# Altium footprint library AD.PcbLib: 11 footprints
Each footprint in its own frame and in the unit in brackets; x right, y up, seen from the top. Pads: shape width x height; smd on the part's side, far side on the other; paste and mask are expansions set on the pad; w line width, h text height; cw(c..) or ccw(c..) is an arc to the next point about the centre after c.
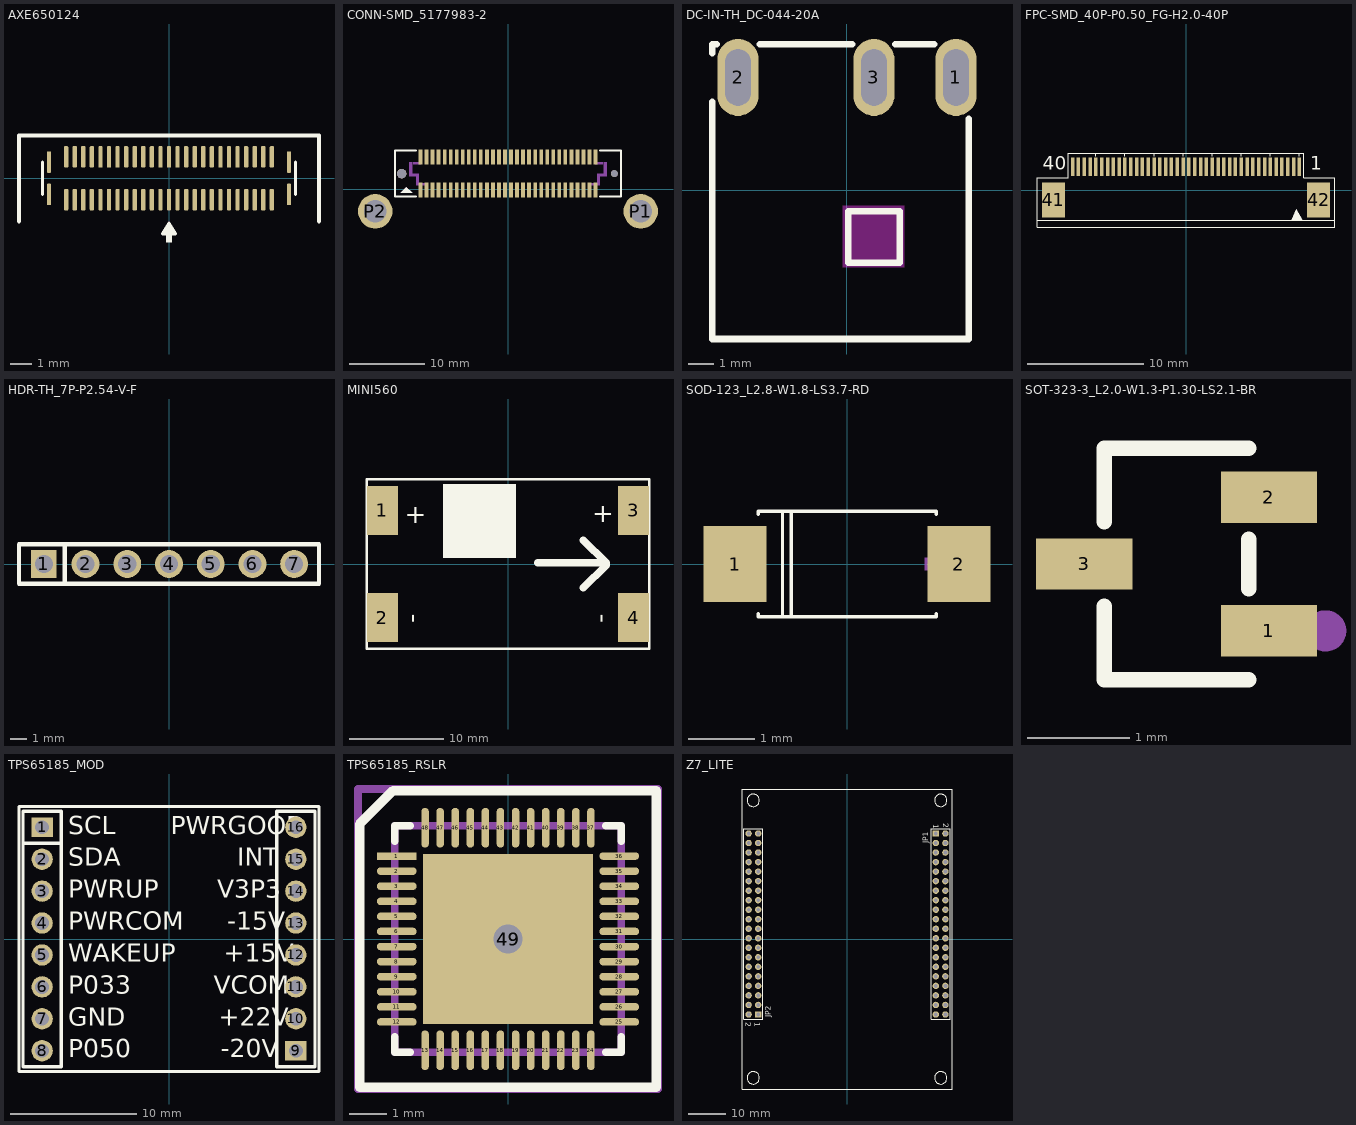
[diagram p0: the footprints below, top view; thin cyan lines are the x and y axes]

## AXE650124 [mm]
pads (54):
  rrect50% 0.2x1 smd: 0(-5.6,-0.75) 0(-5.6,0.75) 0(5.6,-0.75) 0(5.6,0.75) 1(4.8,1) 2(4.8,-1) 3(4.4,1) 4(4.4,-1) 5(4,1) 6(4,-1) 7(3.6,1) 8(3.6,-1) 9(3.2,1) 10(3.2,-1) 11(2.8,1) 12(2.8,-1) 13(2.4,1) 14(2.4,-1) 15(2,1) 16(2,-1) 17(1.6,1) 18(1.6,-1) 19(1.2,1) 20(1.2,-1) 21(0.8,1) 22(0.8,-1) 23(0.4,1) 24(0.4,-1) 25(0,1) 26(0,-1) 27(-0.4,1) 28(-0.4,-1) 29(-0.8,1) 30(-0.8,-1) 31(-1.2,1) 32(-1.2,-1) 33(-1.6,1) 34(-1.6,-1) 35(-2,1) 36(-2,-1) 37(-2.4,1) 38(-2.4,-1) 39(-2.8,1) 40(-2.8,-1) 41(-3.2,1) 42(-3.2,-1) 43(-3.6,1) 44(-3.6,-1) 45(-4,1) 46(-4,-1) 47(-4.4,1) 48(-4.4,-1) 49(-4.8,1) 50(-4.8,-1)
Top Overlay:
  rectangle: -0.15,-3 0.15,-2.6
  region: 0,-2.1 -0.3,-2.6 0.3,-2.6
  lines w0.152: -5.9,-0.75 -5.9,0.75 ; 5.9,-0.75 5.9,0.75 ; -0.3,-2.6 0,-2.6 0.3,-2.6 0,-2.1 -0.3,-2.6
  lines w0.203: -7,-2 -7,2 7,2 7,-2

## CONN-SMD_5177983-2 [mm]
pads (64):
  rect 0.5x2 smd: 1(-11.599,-0.157) 2(-11.599,4.243) 3(-10.799,-0.157) 4(-10.799,4.243) 5(-10,-0.157) 6(-10,4.243) 7(-9.199,-0.157) 8(-9.199,4.243) 9(-8.4,-0.157) 10(-8.4,4.243) 11(-7.6,-0.157) 12(-7.6,4.243) 13(-6.799,-0.157) 14(-6.799,4.243) 15(-6,-0.157) 16(-6,4.243) 17(-5.199,-0.157) 18(-5.199,4.243) 19(-4.4,-0.157) 20(-4.4,4.243) 21(-3.6,-0.157) 22(-3.6,4.243) 23(-2.799,-0.157) 24(-2.799,4.243) 25(-2,-0.157) 26(-2,4.243) 27(-1.199,-0.157) 28(-1.199,4.243) 29(-0.4,-0.157) 30(-0.4,4.243) 31(0.4,-0.157) 32(0.4,4.243) 33(1.201,-0.157) 34(1.201,4.243) 35(2,-0.157) 36(2,4.243) 37(2.801,-0.157) 38(2.801,4.243) 39(3.6,-0.157) 40(3.6,4.243) 41(4.4,-0.157) 42(4.4,4.243) 43(5.201,-0.157) 44(5.201,4.243) 45(6,-0.157) 46(6,4.243) 47(6.801,-0.157) 48(6.801,4.243) 49(7.6,-0.157) 50(7.6,4.243) 51(8.4,-0.157) 52(8.4,4.243) 53(9.201,-0.157) 54(9.201,4.243) 55(10,-0.157) 56(10,4.243) 57(10.801,-0.157) 58(10.801,4.243) 59(11.6,-0.157) 60(11.6,4.243)
  round 4.57 hole 3: P1(17.6,-2.958) P2(-17.6,-2.958)
  round 1.25 hole 1.25 unplated: ""(-14.099,2.043)
  round 0.9 hole 0.9 unplated: ""(14.1,2.043)
Top Overlay:
  region: -13.462,0.265 -14.224,-0.497 -12.7,-0.497
  lines w0.254: -12.192,-1.005 -14.986,-1.005 -14.986,2.043 -14.986,5.091 -12.192,5.091 ; 12.192,-1.005 14.987,-1.005 14.987,5.091 12.192,5.091
Mechanical 15:
  circle w0.55: c-14.099,2.043 r0.275
  circle w0.35: c14.1,2.043 r0.175
  region: -13.462,0.265 -14.224,-0.497 -12.7,-0.497
  region: -11.811,0.519 -11.811,2.043 -12.7,2.043 -12.7,3.567 -13.081,3.567 -13.081,1.662 -12.192,1.662 -12.192,0.519
  region: -12.573,3.313 -11.557,3.313 -11.557,3.567 -12.573,3.567
  region: -11.684,0.519 -10.668,0.519 -10.668,0.773 -11.684,0.773
  region: 11.811,0.519 11.811,2.043 12.7,2.043 12.7,3.567 13.081,3.567 13.081,1.662 12.192,1.662 12.192,0.519
  region: 11.684,0.519 10.668,0.519 10.668,0.773 11.684,0.773
  region: 12.573,3.313 11.557,3.313 11.557,3.567 12.573,3.567

## DC-IN-TH_DC-044-20A [mm]
pads (3):
  oval 1.6x3 hole 1 slot 2.2 at 90 deg: 1(4.263,4.391) 2(-4.236,4.391) 3(1.064,4.391)
Top Overlay:
  lines w0.254: -5.236,3.448 -5.236,-5.808 4.764,-5.808 4.764,2.79 ; -5.236,5.335 -5.236,5.691 -5.074,5.691 ; -1.875,5.691 -3.398,5.691 0.226,5.691 ; 1.902,5.691 3.425,5.691 ; 0.064,-2.828 0.064,-0.828 2.064,-0.828 2.064,-2.828 0.064,-2.828
Keep-Out Layer:
  board cut-out: 2.244,-3.009 -0.156,-3.009 -0.156,-0.609 2.244,-0.609

## FPC-SMD_40P-P0.50_FG-H2.0-40P [mm]
pads (42):
  rect 0.3x1.6 smd: 1(9.752,2.026) 2(9.252,2.026) 3(8.752,2.026) 4(8.252,2.026) 5(7.752,2.026) 6(7.252,2.026) 7(6.752,2.026) 8(6.252,2.026) 9(5.751,2.026) 10(5.252,2.026) 11(4.752,2.026) 12(4.252,2.026) 13(3.752,2.026) 14(3.252,2.026) 15(2.752,2.026) 16(2.252,2.026) 17(1.752,2.026) 18(1.252,2.026) 19(0.752,2.026) 20(0.252,2.026) 21(-0.248,2.026) 22(-0.748,2.026) 23(-1.248,2.026) 24(-1.748,2.026) 25(-2.248,2.026) 26(-2.748,2.026) 27(-3.248,2.026) 28(-3.748,2.026) 29(-4.248,2.026) 30(-4.748,2.026) 31(-5.248,2.026) 32(-5.748,2.026) 33(-6.248,2.026) 34(-6.748,2.026) 35(-7.248,2.026) 36(-7.748,2.026) 37(-8.248,2.026) 38(-8.748,2.026) 39(-9.248,2.026) 40(-9.748,2.026)
  rect 2x3 smd: 41(-11.398,-0.83) 42(11.398,-0.83)
Top Overlay:
  region: 9.081,-2.549 9.981,-2.549 9.501,-1.65
  lines w0.1: -12.8,-2.589 12.8,-2.589 ; -7.751,2.906 -7.751,3.146 ; -5.251,2.906 -5.251,3.146 ; -2.751,2.906 -2.751,3.146 ; -0.251,2.906 -0.251,3.146 ; 2.249,2.906 2.249,3.146 ; 4.749,2.906 4.749,3.146 ; 7.249,2.906 7.249,3.146 ; 9.749,2.906 9.749,3.146 ; 12.798,-3.182 12.798,1.078 10.133,1.078 10.133,3.176 -10.131,3.176 -10.131,1.078 -12.8,1.078 -12.8,-3.182 12.8,-3.182
  text "40" at -12.319,1.378 h2
  text "1" at 10.668,1.397 h2

## HDR-TH_7P-P2.54-V-F [mm]
pads (7):
  rect 1.575x1.7 hole 1.1: 1(-7.62,0)
  round 1.7 hole 1.1: 2(-5.08,0) 3(-2.54,0) 4(0,0) 5(2.54,0) 6(5.08,0) 7(7.62,0)
Top Overlay:
  lines w0.254: -6.35,-1.143 -6.35,1.143 ; -9.13,-1.2 -9.13,1.2 9.13,1.2 9.13,-1.2 -9.13,-1.2

## MINI560 [mm]
pads (4):
  rect 3.25x5.2 smd: 1(-13.335,5.7) 2(-13.335,-5.7) 3(13.335,5.7) 4(13.335,-5.7)
Top Overlay:
  rectangle: -6.921,0.635 0.826,8.509
  lines w0.3: -15,-9 15,-9 15,9 -15,9 -15,-9
  lines w0.8: 3.175,0.127 9.144,0.127 10.414,0.127 ; 8.001,-2.54 10.414,-0.127 10.414,0.127 ; 8.001,2.54 10.414,0.127
  text "+" at -10.973,4.31 h2.03
  text "+" at 8.966,4.437 h2.03
  text "-" at -9.347,-6.274 h2.03
  text "-" at 10.718,-6.274 h2.03

## SOD-123_L2.8-W1.8-LS3.7-RD [mm]
pads (2):
  rect 0.95x1.15 smd: 1(-1.693,0) 2(1.693,0)
Top Overlay:
  lines w0.051: -1.34,-0.754 -1.34,-0.8 1.35,-0.8 1.35,-0.754 ; -1.34,0.754 -1.34,0.8 1.35,0.8 1.35,0.754 ; -0.974,-0.8 -0.974,0.8 ; -0.845,-0.8 -0.845,0.8
Mechanical 15:
  region: -2.03,0.095 -2.03,-0.095 -1.272,-0.095 -1.272,0.095
  region: 1.935,0.098 1.935,-0.092 1.177,-0.092 1.177,0.098

## SOT-323-3_L2.0-W1.3-P1.30-LS2.1-BR [mm]
pads (3):
  rect 0.936x0.5 smd: 1(457.848,-343.512) 2(457.848,-342.212) 3(456.052,-342.862)
Top Overlay:
  lines w0.152: 456.249,-343.273 456.249,-343.989 457.651,-343.989 ; 456.249,-342.452 456.249,-341.736 457.651,-341.736 ; 457.651,-343.102 457.651,-342.623
Mechanical 15:
  circle w0.2: c458.4,-343.512 r0.1

## TPS65185_MOD [mm]
pads (16):
  rect 1.7x1.524 hole 1.1: 1(-10.096,8.89) 9(10.096,-8.89)
  round 1.7 hole 1.1: 2(-10.096,6.35) 3(-10.096,3.81) 4(-10.096,1.27) 5(-10.096,-1.27) 6(-10.096,-3.81) 7(-10.096,-6.35) 8(-10.096,-8.89) 10(10.096,-6.35) 11(10.096,-3.81) 12(10.096,-1.27) 13(10.096,1.27) 14(10.096,3.81) 15(10.096,6.35) 16(10.096,8.89)
Top Overlay:
  lines w0.254: -11.62,7.62 -8.572,7.62 ; -11.938,-10.541 -11.938,10.541 11.938,10.541 11.938,-10.541 -11.938,-10.541 ; -11.62,-10.16 -8.572,-10.16 -8.572,10.16 -11.62,10.16 -11.62,-10.16 ; 8.572,-10.16 8.572,10.16 11.62,10.16 11.62,-10.16 8.572,-10.16
  text "PWRGOOD" at 0.127,7.874 h2.5
  text "INT" at 5.428,5.334 h2.5
  text "V3P3" at 3.858,2.794 h2.5
  text "-15V" at 4.656,0.254 h2.5
  text "+15V" at 4.371,-2.286 h2.5
  text "VCOM" at 3.581,-4.826 h2.5
  text "+22V" at 3.957,-7.366 h2.5
  text "-20V" at 4.133,-9.906 h2.5
  text "P050" at -8.001,-9.906 h2.5
  text "GND" at -8.001,-7.366 h2.5
  text "P033" at -8.001,-4.826 h2.5
  text "WAKEUP" at -8.001,-2.286 h2.5
  text "PWRCOM" at -8.001,0.254 h2.5
  text "PWRUP" at -8.001,2.794 h2.5
  text "SDA" at -8.001,5.334 h2.5
  text "SCL" at -8.001,7.874 h2.5

## TPS65185_RSLR [mm]
height 1
pads (50):
  rect 1.057x0.199 smd paste+0 mask+0: 1(-2.951,2.2)
  rrect100% 1.057x0.199 smd paste+0 mask+0: 2(-2.951,1.8) 3(-2.951,1.4) 4(-2.951,1) 5(-2.951,0.6) 6(-2.951,0.2) 7(-2.951,-0.2) 8(-2.951,-0.6) 9(-2.951,-1) 10(-2.951,-1.4) 11(-2.951,-1.8) 12(-2.951,-2.2) 25(2.951,-2.2) 26(2.951,-1.8) 27(2.951,-1.4) 28(2.951,-1) 29(2.951,-0.6) 30(2.951,-0.2) 31(2.951,0.2) 32(2.951,0.6) 33(2.951,1) 34(2.951,1.4) 35(2.951,1.8) 36(2.951,2.2)
  rrect100% 0.199x1.057 smd paste+0 mask+0: 13(-2.2,-2.951) 14(-1.8,-2.951) 15(-1.4,-2.951) 16(-1,-2.951) 17(-0.6,-2.951) 18(-0.2,-2.951) 19(0.2,-2.951) 20(0.6,-2.951) 21(1,-2.951) 22(1.4,-2.951) 23(1.8,-2.951) 24(2.2,-2.951) 37(2.2,2.951) 38(1.8,2.951) 39(1.4,2.951) 40(1,2.951) 41(0.6,2.951) 42(0.2,2.951) 43(-0.2,2.951) 44(-0.6,2.951) 45(-1,2.951) 46(-1.4,2.951) 47(-1.8,2.951) 48(-2.2,2.951)
  rect 4.5x4.5 smd paste-1000 mask+0: 49(0,0)
  rect 1.524x1.524 hole 0.762: 49(0,0)
Top Overlay:
  lines w0.2: -3,-2.6 -3,-3 -2.6,-3 ; -3,2.6 -3,3 -2.6,3 ; 2.6,-3 3,-3 3,-2.6 ; 2.6,3 3,3 3,2.6
  lines w0.254: -3.937,-3.937 3.937,-3.937 3.937,3.937 -3.048,3.937 -3.937,3.048 -3.937,-3.937
Top Paste:
  rectangle: -1.699,0.276 -0.276,1.699
  rectangle: 0.276,0.276 1.699,1.699
  rectangle: -1.699,-1.699 -0.276,-0.276
  rectangle: 0.276,-1.699 1.699,-0.276
Top 3D Body:
  lines w0.2: -3,-3 3,-3 3,3 -3,3 -3,-3
Top Courtyard:
  lines w0.2: -3.979,-3.979 3.979,-3.979 3.979,3.979 -3.979,3.979 -3.979,-3.979
Top Assembly:
  lines w0.2: -3.979,-3.979 3.979,-3.979 3.979,3.979 -3.979,3.979 -3.979,-3.979
Top Component Center:
  lines w0.1: -0.5,0 0.5,0 ; 0,-0.5 0,0.5
3D body "IC_Texas_Instruments_TPS651851RSLT_eec.STEP": height 0.25, standoff 0, extent -3.979,-3.979 3.979,3.979

## Z7_LITE [mm]
pads (80):
  rect 1.71x1.71 hole 1.01: 1(23.69,28.135) 41(-23.69,-20.125)
  round 1.71 hole 1.01: 2(26.23,28.135) 3(23.69,25.595) 4(26.23,25.595) 5(23.69,23.055) 6(26.23,23.055) 7(23.69,20.515) 8(26.23,20.515) 9(23.69,17.975) 10(26.23,17.975) 11(23.69,15.435) 12(26.23,15.435) 13(23.69,12.895) 14(26.23,12.895) 15(23.69,10.355) 16(26.23,10.355) 17(23.69,7.815) 18(26.23,7.815) 19(23.69,5.275) 20(26.23,5.275) 21(23.69,2.735) 22(26.23,2.735) 23(23.69,0.195) 24(26.23,0.195) 25(23.69,-2.345) 26(26.23,-2.345) 27(23.69,-4.885) 28(26.23,-4.885) 29(23.69,-7.425) 30(26.23,-7.425) 31(23.69,-9.965) 32(26.23,-9.965) 33(23.69,-12.505) 34(26.23,-12.505) 35(23.69,-15.045) 36(26.23,-15.045) 37(23.69,-17.585) 38(26.23,-17.585) 39(23.69,-20.125) 40(26.23,-20.125) 42(-26.23,-20.125) 43(-23.69,-17.585) 44(-26.23,-17.585) 45(-23.69,-15.045) 46(-26.23,-15.045) 47(-23.69,-12.505) 48(-26.23,-12.505) 49(-23.69,-9.965) 50(-26.23,-9.965) 51(-23.69,-7.425) 52(-26.23,-7.425) 53(-23.69,-4.885) 54(-26.23,-4.885) 55(-23.69,-2.345) 56(-26.23,-2.345) 57(-23.69,0.195) 58(-26.23,0.195) 59(-23.69,2.735) 60(-26.23,2.735) 61(-23.69,5.275) 62(-26.23,5.275) 63(-23.69,7.815) 64(-26.23,7.815) 65(-23.69,10.355) 66(-26.23,10.355) 67(-23.69,12.895) 68(-26.23,12.895) 69(-23.69,15.435) 70(-26.23,15.435) 71(-23.69,17.975) 72(-26.23,17.975) 73(-23.69,20.515) 74(-26.23,20.515) 75(-23.69,23.055) 76(-26.23,23.055) 77(-23.69,25.595) 78(-26.23,25.595) 79(-23.69,28.135) 80(-26.23,28.135)
Top Overlay:
  circle w0.254: c-25,36.974 r1.656
  circle w0.254: c25,36.974 r1.656
  circle w0.254: c25,-37.025 r1.656
  circle w0.254: c-25,-37.025 r1.656
  lines w0.254: -28.003,40.002 27.997,40.002 ; -27.996,39.997 -27.996,-40.002 28.003,-40.002 28.003,39.997 ; -27.5,-21.395 -27.5,29.405 -22.42,29.405 -22.42,-21.395 -27.5,-21.395 ; 22.42,-21.395 27.5,-21.395 27.5,29.405 22.42,29.405 22.42,-21.395
  text "1" at -24.607,-22.208 h1.5
  text "2" at -27.045,-22.208 h1.5
  text "JP2" at -20.396,-20.879 h1.5
  text "1" at 23.063,30.658 h1.5
  text "2" at 25.73,30.912 h1.5
  text "JP1" at 21.641,25.476 h1.5